# Altium schematic symbol library Schlib3.SchLib: 6 symbols
Pins are listed as number, name and electrical type; pins without a type are passive.

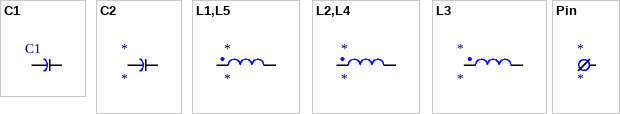
[diagram p0: symbols C1 to Pin]

## C1
designator C1  (value not drawn)
footprint C1 (Chip Capacitor, 2-Leads, Body 3,20x2,50mm, IPC Medium Density)
pins: 1, 2

## C2
designator *
footprint C2 (Chip Capacitor, 2-Leads, Body 3,20x1,60mm, IPC Medium Density)
pins: 1, 2

## L1,L5
designator *
footprint L1,L5
pins: 1, 2

## L2,L4
designator *
footprint L2,L4
pins: 1, 2

## L3
designator *
footprint L3
pins: 1, 2

## Pin
designator *
footprint Pin
pins: 1 4